# EAGLE library part DRV-FAN7384 (library eagleLib v2)
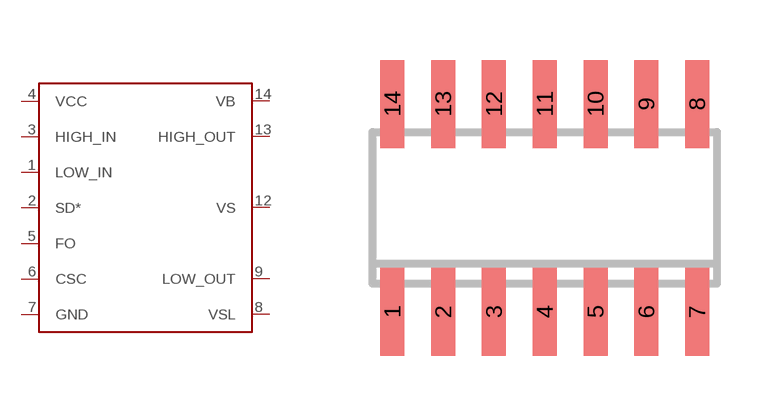
[diagram p68: symbol with the pads of SO14; footprint SO14]

Designator prefix -

## DRV-FAN7384  [SO14]
1  LOW_IN
2  SD*
3  HIGH_IN
4  VCC
5  FO
6  CSC
7  GND
8  VSL
9  LOW_OUT
12  VS
13  HIGH_OUT
14  VB

## Footprint SO14 (pad centres in mm)
SMALL OUTLINE INTEGRATED CIRCUIT body 3.9 mm/JEDEC MS-012AC
smd 0.6 x 2.2: 1 -3.81,-2.6; 2 -2.54,-2.6; 3 -1.27,-2.6; 4 0,-2.6; 5 1.27,-2.6; 6 2.54,-2.6; 7 3.81,-2.6; 8 3.81,2.6; 9 2.54,2.6; 10 1.27,2.6; 11 0,2.6; 12 -1.27,2.6; 13 -2.54,2.6; 14 -3.81,2.6